# EAGLE library part SFV14R-2STE1HLF (library KW2)
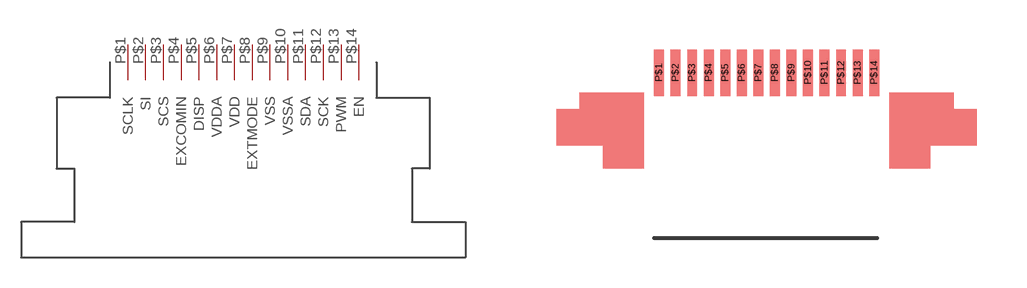
[diagram p12: symbol with the pads of SFV14R-2STE1HLF; footprint SFV14R-2STE1HLF]

Designator prefix -

## SFV14R-2STE1HLF  [SFV14R-2STE1HLF]
P$1  SCLK
P$2  SI
P$3  SCS
P$4  EXCOMIN
P$5  DISP
P$6  VDDA
P$7  VDD
P$8  EXTMODE
P$9  VSS
P$10  VSSA
P$11  SDA
P$12  SCK
P$13  PWM
P$14  EN

## Footprint SFV14R-2STE1HLF (pad centres in mm)
smd 0.3 x 1.4: P$1 -3.25,0.5; P$2 -2.75,0.5; P$3 -2.25,0.5; P$4 -1.75,0.5; P$5 -1.25,0.5; P$6 -0.75,0.5; P$7 -0.25,0.5; P$8 0.25,0.5; P$9 0.75,0.5; P$10 1.25,0.5; P$11 1.75,0.5; P$12 2.25,0.5; P$13 2.75,0.5; P$14 3.25,0.5